# EAGLE library part MOTOR_DRIVER (library ISCTRainingProgram)
The SN754410 is a quadruple high-current half-H driver designed to provide bidirectional drive currents up to 1 A at voltages from 4.5 V to 36 V. The device is designed to drive inductive loads such as relays, solenoids, DC and bipolar stepping motors, as well as other high-current/high-voltage loads in positive-supply applications.
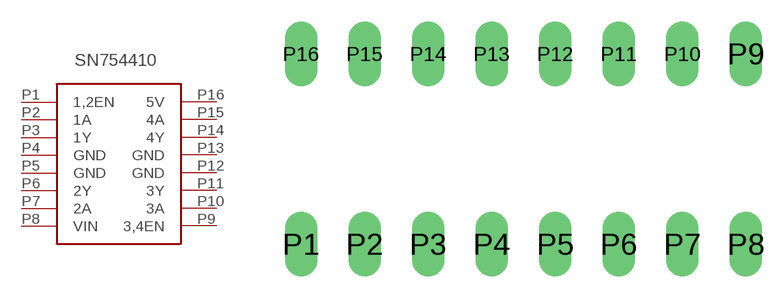
[diagram p0: symbol with the pads of DIP16; footprint DIP16]

Designator prefix -

## MOTOR_DRIVERDIP16  [DIP16]
P1  1,2EN  in
P2  1A  in
P3  1Y  out
P4  GND  pwr
P5  GND  pwr
P6  2Y  out
P7  2A  in
P8  VIN  pwr
P9  3,4EN  in
P10  3A  in
P11  3Y  out
P12  GND  pwr
P13  GND  pwr
P14  4Y  out
P15  4A  in
P16  5V  pwr

## Footprint DIP16 (pad centres in mm)
DIP 16
drill 0.8 long: P1 -8.89,-3.81; P2 -6.35,-3.81; P3 -3.81,-3.81; P4 -1.27,-3.81; P5 1.27,-3.81; P6 3.81,-3.81; P7 6.35,-3.81; P8 8.89,-3.81; P9 8.89,3.81; P10 6.35,3.81; P11 3.81,3.81; P12 1.27,3.81; P13 -1.27,3.81; P14 -3.81,3.81; P15 -6.35,3.81; P16 -8.89,3.81